# Altium schematic symbol library V40_Test_Adapter.SchLib: 2 symbols
Pins are listed as number, name and electrical type; pins without a type are passive.

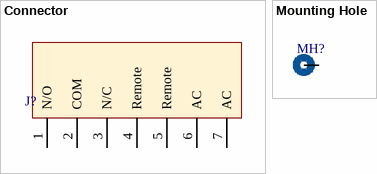
[diagram p0: symbols Connector to Mounting Hole]

## Connector
designator J?  (value not drawn)
footprint Phoenix Terminal Block
pins: 1 N/O, 2 COM, 3 N/C, 4 Remote, 5 Remote, 6 AC, 7 AC

## Mounting Hole
designator MH?  (value not drawn)
footprint Mounting Hole
pins: 0